# EAGLE library part LTC2631A-LM12 (library di_ic)
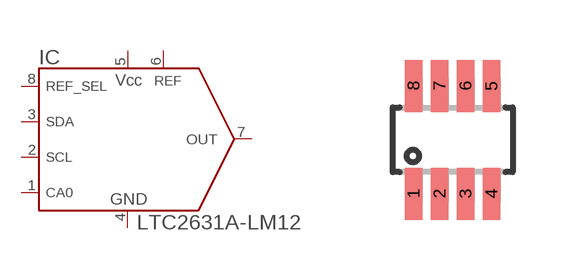
[diagram p20: symbol with the pads of SOT23-8; footprint SOT23-8]

Designator prefix IC

## LTC2631A-LM12  [SOT23-8]
1  CA0
2  SCL
3  SDA
4  GND  pwr
5  VCC  pwr
6  REF
7  OUT  out
8  REF_SEL

## Footprint SOT23-8 (pad centres in mm)
smd 0.44 x 1.3: 1 -0.975,-1.35; 2 -0.325,-1.35; 3 0.325,-1.35; 4 0.975,-1.35; 5 0.975,1.35; 6 0.325,1.35; 7 -0.325,1.35; 8 -0.975,1.35